# EAGLE library part TDA8541 (library Linear4)
1 Watt BTL amplifier
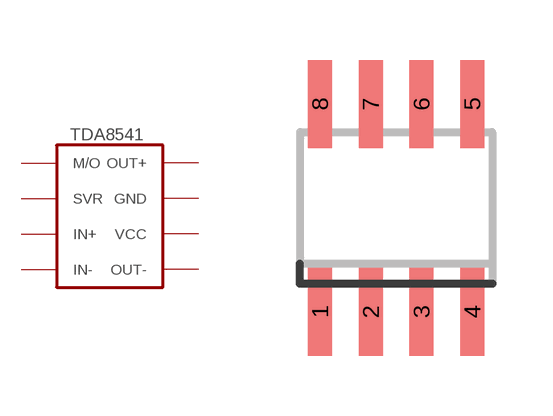
[diagram p204: symbol with the pads of SO08; footprint SO08]

Designator prefix IC

## TDA8541  [SO08]
1  M/O  in
2  SVR  in
3  IN+  in
4  IN-  in
5  OUT-  out
6  VCC  in
7  GND  in
8  OUT+  out

## Footprint SO08 (pad centres in mm)
Small Outline Package 8 NS Package M08A
smd 0.6 x 2.2: 1 -1.905,-2.6; 2 -0.635,-2.6; 3 0.635,-2.6; 4 1.905,-2.6; 5 1.905,2.6; 6 0.635,2.6; 7 -0.635,2.6; 8 -1.905,2.6